# Altium schematic symbol library HEADER_2x8.Schlib: 1 symbol
Pins are listed as number, name and electrical type; pins without a type are passive.

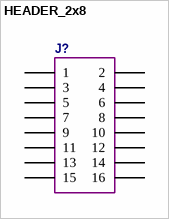
[diagram p0: symbol HEADER_2x8]

## HEADER_2x8
designator J?  (value not drawn)
HEADER 2x8 16 circtuits
pins: 1, 2, 3, 4, 5, 6, 7, 8, 9, 10, 11, 12, 13, 14, 15, 16